# EAGLE library part EDGE05-2-F (library dtb)
PIN HEADER
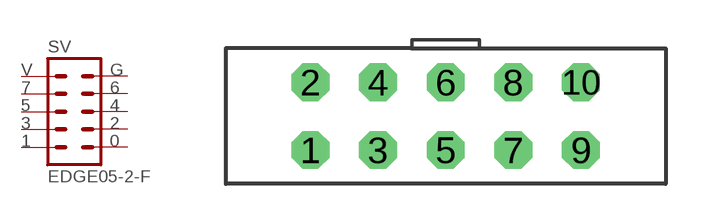
[diagram p0: symbol with the pads of EDGE05-2-F; footprint EDGE05-2-F]

Designator prefix SV

## EDGE05-2-F (OC_FARNELL: unknown; OC_NEWARK: unknown)  [EDGE05-2-F]
1  1  pas
2  2  pas
3  3  pas
4  4  pas
5  5  pas
6  6  pas
7  7  pas
8  8  pas
9  9  pas
10  10  pas

## Footprint EDGE05-2-F (pad centres in mm)
PIN HEADER
drill 0.9 pad 1.422 octagon: 1 -5.08,-1.27; 2 -5.08,1.27; 3 -2.54,-1.27; 4 -2.54,1.27; 5 0,-1.27; 6 0,1.27; 7 2.54,-1.27; 8 2.54,1.27; 9 5.08,-1.27; 10 5.08,1.27